# Altium schematic symbol library BCS-116-F-S-TE.SchLib: 1 symbol
Pins are listed as number, name and electrical type; pins without a type are passive.

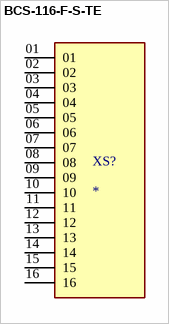
[diagram p0: symbol BCS-116-F-S-TE]

## BCS-116-F-S-TE
designator XS?
16 Position Receptacle Connector 0.100 (2.54mm) Through Hole Gold; MF: Samtec Inc.; MP: BCS-116-F-S-TE; SnapEDA_Link: https://www.snapeda.com/parts/BCS-116-F-S-TE/Samtec+Inc./view-part/?ref=snap; Package: None; Value: *; Check_prices: https://www.snapeda.com/parts/BCS-116-F-S-TE/Samtec+Inc./view-part/?ref=eda
footprint BCS-116-F-S-TE
pins: 01, 02, 03, 04, 05, 06, 07, 08, 09, 10, 11, 12, 13, 14, 15, 16